# Altium schematic symbol library Expansion board.SchLib: 21 symbols
Pins are listed as number, name and electrical type; pins without a type are passive.

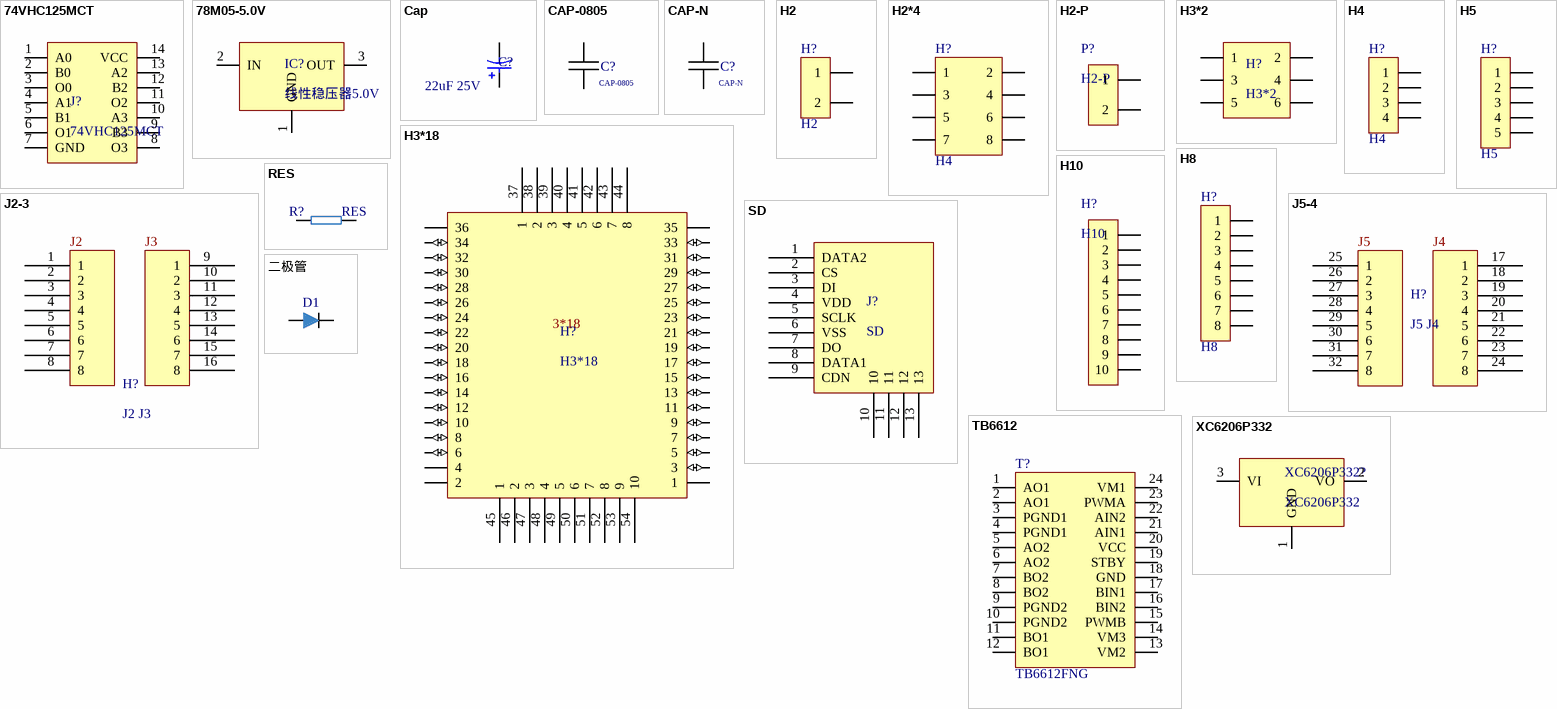
[diagram p0: symbols 74VHC125MCT to 二极管]

## 74VHC125MCT
designator J?
pins: 1 A0, 2 B0, 3 O0, 4 A1, 5 B1, 6 O1, 7 GND, 8 O3, 9 B3, 10 A3, 11 O2, 12 B2, 13 A2, 14 VCC

## 78M05-5.0V
designator IC?, comment 线性稳压器5.0V
MAX 18V
pins: 1 GND, 2 IN, 3 OUT

## Cap
designator C?, comment 22uF 25V
极性电容器; Published: 8-Jun-2000; LatestRevisionDate: 17-Jul-2002; LatestRevisionNote: Re-released for DXP Platform.; PackageReference: RB7.6-15; Publisher: Altium Limited; PackageDescription: Polarized Capacitor (Radial); 2 Leads
footprint RB7.6-15 (Polarized Capacitor (Radial); 2 Leads)
simulation model CAP (Capacitor)
signal-integrity model Cap Pol
pins: 1, 2
1 alternate drawing of the same symbol

## CAP-0805
designator C?
pins: 1, 2

## CAP-N
designator C?
pins: 1, 2

## H2
designator H?
排针类
pins: 1, 2

## H2*4
designator H?, comment H4
pins: 1, 2, 3, 4, 5, 6, 7, 8

## H2-P
designator P?
排管类
pins: 1, 2

## H3*2
designator H?
pins: 1, 2, 3, 4, 5, 6

## H3*18
designator H?
pins: 1 (power), 2 (power), 3 (io), 4, 5 (io), 6 (io), 7 (io), 8 (io), 9 (io), 10 (io), 11 (io), 12 (io), 13 (io), 14 (io), 15 (io), 16 (io), 17 (io), 18 (io), 19 (io), 20 (io), 21 (io), 22 (io), 23 (io), 24 (io), 25 (io), 26 (io), 27 (io), 28 (io), 29 (io), 30 (io), 31 (io), 32 (io), 33 (io), 34 (io), 35 (power), 36 (power), 37 1, 38 2, 39 3, 40 4, 41 5, 42 6, 43 7, 44 8, 45 1, 46 2, 47 3, 48 4, 49 5, 50 6, 51 7, 52 8, 53 9, 54 10
text: 3*18

## H4
designator H?
pins: 1, 2, 3, 4

## H5
designator H?
pins: 1, 2, 3, 4, 5

## H8
designator H?
pins: 1, 2, 3, 4, 5, 6, 7, 8

## H10
designator H?
pins: 1, 2, 3, 4, 5, 6, 7, 8, 9, 10

## J2-3
designator H?, comment J2 J3
pins: 1, 2, 3, 4, 5, 6, 7, 8, 9 1, 10 2, 11 3, 12 4, 13 5, 14 6, 15 7, 16 8
text: J2; J3

## J5-4
designator H?, comment J5 J4
pins: 17 1, 18 2, 19 3, 20 4, 21 5, 22 6, 23 7, 24 8, 25 1, 26 2, 27 3, 28 4, 29 5, 30 6, 31 7, 32 8
text: J5; J4

## RES
designator R?
footprint 0805
pins: 1, 2

## SD
designator J?
pins: 1 DATA2, 2 CS, 3 DI, 4 VDD, 5 SCLK, 6 VSS, 7 DO, 8 DATA1, 9 CDN, 10, 11, 12, 13

## TB6612
designator T?, comment TB6612FNG
pins: 1 AO1, 2 AO1, 3 PGND1, 4 PGND1, 5 AO2, 6 AO2, 7 BO2, 8 BO2, 9 PGND2, 10 PGND2, 11 BO1, 12 BO1, 13 VM2, 14 VM3, 15 PWMB, 16 BIN2, 17 BIN1, 18 GND, 19 STBY, 20 VCC, 21 AIN1, 22 AIN2, 23 PWMA, 24 VM1

## XC6206P332
designator XC6206P332?
3.3V限性稳压器
pins: 1 GND, 2 VO, 3 VI

## 二极管
designator D1  (value not drawn)
footprint 1206 正负 (开关二极管)
pins: 1, 2